# Altium footprint library Diode_Littelfuse_SR05-02CTG_eec_MFG.PcbLib: 1 footprints
Each footprint in its own frame and in the unit in brackets; x right, y up, seen from the top. Pads: shape width x height; smd on the part's side, far side on the other; paste and mask are expansions set on the pad; w line width, h text height; cw(c..) or ccw(c..) is an arc to the next point about the centre after c.
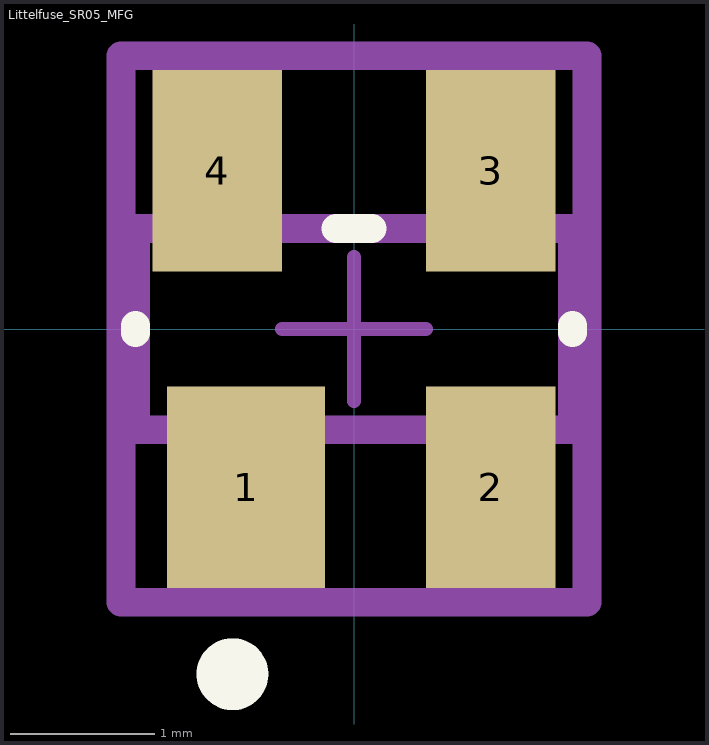
[diagram p0: the footprint, top view; thin cyan lines are the x and y axes]

## Littelfuse_SR05_MFG [mm]
pads (4):
  rect 1.1x1.4 smd paste+0 mask+0: 1(-0.75,-1.1)
  rect 0.9x1.4 smd paste+0 mask+0: 2(0.95,-1.1) 3(0.95,1.1) 4(-0.95,1.1)
Top Overlay:
  circle w0.25: c-0.845,-2.4 r0.125
  lines w0.2: -1.52,-0.025 -1.52,0.025 ; -0.125,0.7 0.125,0.7 ; 1.52,-0.025 1.52,0.025
Mechanical 10:
  lines w0.2: -1.62,-1.9 1.62,-1.9 1.62,1.9 -1.62,1.9 -1.62,-1.9
  text ".Designator" at 0,0 h1
Mechanical 12:
  lines w0.2: -1.52,-0.7 1.52,-0.7 1.52,0.7 -1.52,0.7 -1.52,-0.7
Mechanical 15:
  lines w0.1: -0.5,0 0.5,0 ; 0,-0.5 0,0.5
  lines w0.2: -1.62,-1.9 1.62,-1.9 1.62,1.9 -1.62,1.9 -1.62,-1.9
3D body "Diode_Littelfuse_SR05-02CTG_eec.STEP": height 0.25, standoff 0, extent -1.62,-1.9 1.62,1.9